# Altium schematic symbol library 74hc595.SchLib: 1 symbol
Pins are listed as number, name and electrical type; pins without a type are passive.

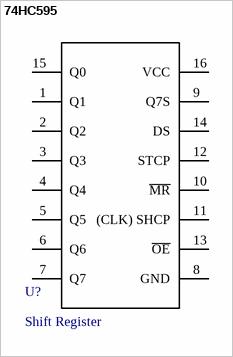
[diagram p0: symbol 74HC595]

## 74HC595
designator U?, comment Shift Register
pins: 1 Q1, 2 Q2, 3 Q3, 4 Q4, 5 Q5, 6 Q6, 7 Q7, 8 GND, 9 Q7S, 10 ~{MR}, 11 (CLK) SHCP, 12 STCP, 13 ~{OE}, 14 DS, 15 Q0, 16 VCC